# EAGLE library part AD9866_AD9866 (library Radioberry)
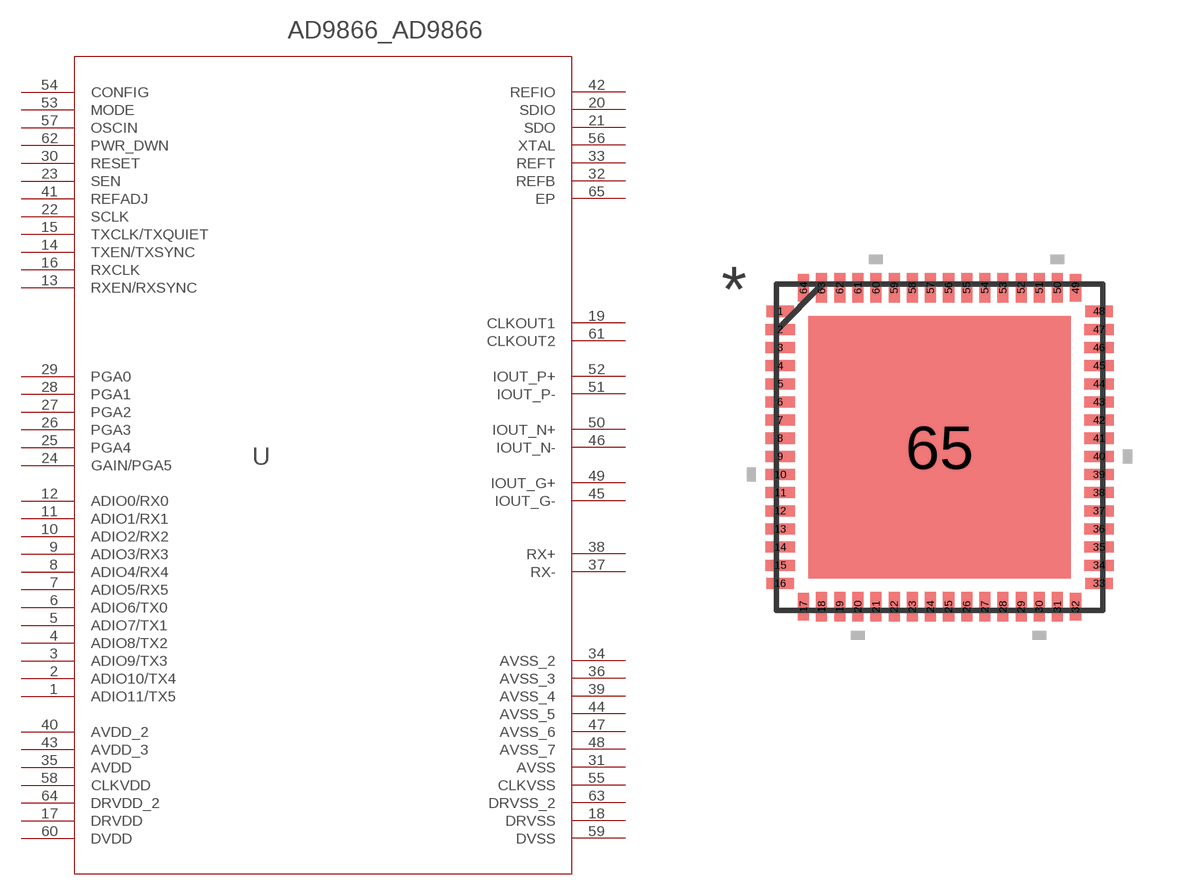
[diagram p0: symbol with the pads of AD9866_CP_64_3; footprint AD9866_CP_64_3]

Designator prefix -

## AD9866_AD9866  [AD9866_CP_64_3]
1  ADIO11/TX5  pas
2  ADIO10/TX4  pas
3  ADIO9/TX3  pas
4  ADIO8/TX2  pas
5  ADIO7/TX1  pas
6  ADIO6/TX0  pas
7  ADIO5/RX5  pas
8  ADIO4/RX4  pas
9  ADIO3/RX3  pas
10  ADIO2/RX2  pas
11  ADIO1/RX1  pas
12  ADIO0/RX0  pas
13  RXEN/RXSYNC  pas
14  TXEN/TXSYNC  pas
15  TXCLK/TXQUIET  pas
16  RXCLK  pas
17  DRVDD  pwr
18  DRVSS  pas
19  CLKOUT1  pas
20  SDIO  pas
21  SDO  pas
22  SCLK  pas
23  SEN  pas
24  GAIN/PGA5  pas
25  PGA4  pas
26  PGA3  pas
27  PGA2  pas
28  PGA1  pas
29  PGA0  pas
30  RESET  pas
31  AVSS  pas
32  REFB  pas
33  REFT  pas
34  AVSS_2  pas
35  AVDD  pwr
36  AVSS_3  pas
37  RX-  pas
38  RX+  pas
39  AVSS_4  pas
40  AVDD_2  pwr
41  REFADJ  pas
42  REFIO  pas
43  AVDD_3  pwr
44  AVSS_5  pas
45  IOUT_G-  pas
46  IOUT_N-  pas
47  AVSS_6  pas
48  AVSS_7  pas
49  IOUT_G+  pas
50  IOUT_N+  pas
51  IOUT_P-  pas
52  IOUT_P+  pas
53  MODE  pas
54  CONFIG  pas
55  CLKVSS  pas
56  XTAL  pas
57  OSCIN  pas
58  CLKVDD  pwr
59  DVSS  pas
60  DVDD  pwr
61  CLKOUT2  pas
62  PWR_DWN  pas
63  DRVSS_2  pas
64  DRVDD_2  pwr
65  EP  pas

## Footprint AD9866_CP_64_3 (pad centres in mm)
smd 0.762 x 0.305: 1 -4.394,3.75; 16 -4.394,-3.75; 33 4.394,-3.75; 48 4.394,3.75
smd 0.813 x 0.305: 2 -4.394,3.25; 3 -4.394,2.75; 4 -4.394,2.25; 5 -4.394,1.75; 6 -4.394,1.25; 7 -4.394,0.75; 8 -4.394,0.25; 9 -4.394,-0.25; 10 -4.394,-0.75; 11 -4.394,-1.25; 12 -4.394,-1.75; 13 -4.394,-2.25; 14 -4.394,-2.75; 15 -4.394,-3.25; 34 4.394,-3.25; 35 4.394,-2.75; 36 4.394,-2.25; 37 4.394,-1.75; 38 4.394,-1.25; 39 4.394,-0.75; 40 4.394,-0.25; 41 4.394,0.25; 42 4.394,0.75; 43 4.394,1.25; 44 4.394,1.75; 45 4.394,2.25; 46 4.394,2.75; 47 4.394,3.25
smd 0.305 x 0.762: 17 -3.75,-4.394; 32 3.75,-4.394; 49 3.75,4.394; 64 -3.75,4.394
smd 0.305 x 0.813: 18 -3.25,-4.394; 19 -2.75,-4.394; 20 -2.25,-4.394; 21 -1.75,-4.394; 22 -1.25,-4.394; 23 -0.75,-4.394; 24 -0.25,-4.394; 25 0.25,-4.394; 26 0.75,-4.394; 27 1.25,-4.394; 28 1.75,-4.394; 29 2.25,-4.394; 30 2.75,-4.394; 31 3.25,-4.394; 50 3.25,4.394; 51 2.75,4.394; 52 2.25,4.394; 53 1.75,4.394; 54 1.25,4.394; 55 0.75,4.394; 56 0.25,4.394; 57 -0.25,4.394; 58 -0.75,4.394; 59 -1.25,4.394; 60 -1.75,4.394; 61 -2.25,4.394; 62 -2.75,4.394; 63 -3.25,4.394
smd 7.239 x 7.239: 65 0,0